# Altium schematic symbol library R0603.Schlib: 1 symbol
Pins are listed as number, name and electrical type; pins without a type are passive.

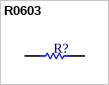
[diagram p0: symbol R0603]

## R0603
designator R?  (value not drawn)
0603 Chip Resistor - Standard
pins: 1, 2